# Altium footprint library 驱动1.PcbLib: 11 footprints
Each footprint in its own frame and in the unit in brackets; x right, y up, seen from the top. Pads: shape width x height; smd on the part's side, far side on the other; paste and mask are expansions set on the pad; w line width, h text height; cw(c..) or ccw(c..) is an arc to the next point about the centre after c.
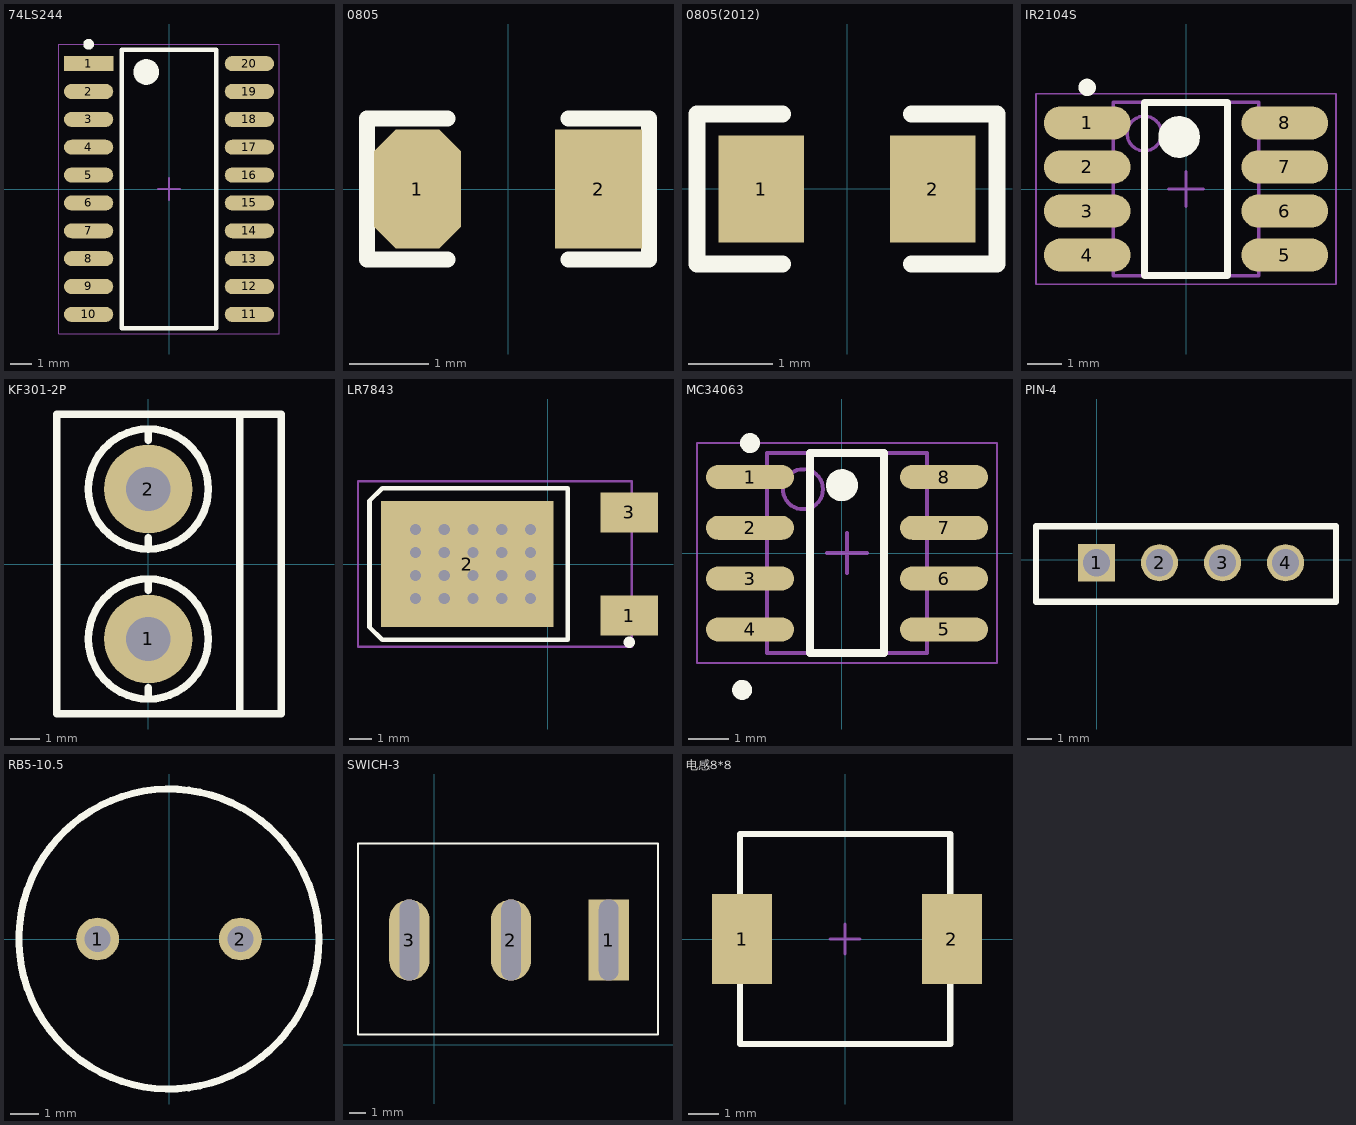
[diagram p0: the footprints below, top view; thin cyan lines are the x and y axes]

## 74LS244 [mm]
height 2.65
pads (20):
  rect 2.3x0.7 smd: 1(-3.75,5.85)
  oval 2.3x0.7 smd: 2(-3.75,4.55) 3(-3.75,3.25) 4(-3.75,1.95) 5(-3.75,0.65) 6(-3.75,-0.65) 7(-3.75,-1.95) 8(-3.75,-3.25) 9(-3.75,-4.55) 10(-3.75,-5.85) 11(3.75,-5.85) 12(3.75,-4.55) 13(3.75,-3.25) 14(3.75,-1.95) 15(3.75,-0.65) 16(3.75,0.65) 17(3.75,1.95) 18(3.75,3.25) 19(3.75,4.55) 20(3.75,5.85)
Top Overlay:
  circle w0.6: c-1.062,5.461 r0.3
  circle w0.25: c-3.75,6.75 r0.125
  lines w0.2: -2.2,-6.5 2.2,-6.5 2.2,6.5 -2.2,6.5 -2.2,-6.5
Mechanical 15:
  lines w0.05: -5.15,-6.75 5.15,-6.75 5.15,6.75 -5.15,6.75 -5.15,-6.75
  lines w0.1: -0.5,0 0.5,0 ; 0,-0.5 0,0.5

## 0805 [mm]
pads (2):
  oct 1.1x1.5 smd: 1(-1.143,0)
  rect 1.1x1.5 smd: 2(1.143,0)
Top Overlay:
  lines w0.2: -1.778,-0.889 -0.762,-0.889 ; -1.778,0.889 -0.762,0.889 ; 0.762,-0.889 1.778,-0.889 ; 0.762,0.889 1.778,0.889
  lines w0.203: -1.778,-0.889 -1.778,0.889 ; 1.778,-0.889 1.778,0.889

## 0805(2012) [mil]
pads (2):
  rect 40x50 smd: 1(-40,0) 2(40,0)
Top Overlay:
  lines w7.87: -70,-35 -30,-35 ; -70,35 -30,35 ; 30,-35 70,-35 ; 30,35 70,35
  lines w8: -70,-35 -70,35 ; 70,-35 70,35

## IR2104S [mm] "SOIC, 8-Leads, Body 4.90x4.16mm, Pitch 1.27mm, IPC Medium Density"
height 1.75
pads (8):
  oval 2.5x0.95 smd: 1(-2.85,1.905) 2(-2.85,0.635) 3(-2.85,-0.635) 4(-2.85,-1.905) 5(2.85,-1.905) 6(2.85,-0.635) 7(2.85,0.635) 8(2.85,1.905)
Top Overlay:
  circle w0.25: c-2.85,2.93 r0.125
  circle w0.6: c-0.2,1.5 r0.3
  lines w0.2: -1.2,-2.5 -1.2,2.5 1.2,2.5 1.2,-2.5 -1.2,-2.5
Mechanical 13:
  circle w0.1: c-1.2,1.6 r0.5
  lines w0.1: -2.1,-2.5 -2.1,2.5 2.1,2.5 2.1,-2.5 -2.1,-2.5
Mechanical 15:
  lines w0.05: -4.325,-2.75 -4.325,2.75 4.325,2.75 4.325,-2.75 -4.325,-2.75
  lines w0.1: -0.5,0 0.5,0 ; 0,-0.5 0,0.5
3D body: height 1.75, standoff 0.22, extent -2.1,-2.5 2.1,2.5

## KF301-2P [mm]
pads (2):
  round 3 hole 1.5: 1(0,-2.54) 2(0,2.54)
Top Overlay:
  circle w0.254: c0,2.54 r2.032
  circle w0.254: c0,-2.54 r2.032
  lines w0.254: 0,-4.572 0,-4.191 ; 0,-0.889 0,-0.508 ; 0,0.508 0,0.889 ; 0,4.191 0,4.572 ; 3.1,-5.08 3.1,5.08 ; -3.1,-5.08 -3.1,5.08 4.5,5.08 4.5,-5.08 -3.1,-5.08

## LR7843 [mm]
pads (3):
  rect 2.54x1.778 smd: 1(3.6,-2.28) 3(3.6,2.28)
  rect 7.6x5.55 smd: 2(-3.556,0)
via -0.762,-1.524 diameter 0.8 hole 0.5
via -0.762,-0.508 diameter 0.8 hole 0.5
via -0.762,1.524 diameter 0.8 hole 0.5
via -0.762,0.508 diameter 0.8 hole 0.5
via -5.842,-1.524 diameter 0.8 hole 0.5
via -3.302,-1.524 diameter 0.8 hole 0.5
via -2.032,-0.508 diameter 0.8 hole 0.5
via -2.032,-1.524 diameter 0.8 hole 0.5
via -2.032,0.508 diameter 0.8 hole 0.5
via -2.032,1.524 diameter 0.8 hole 0.5
via -3.302,-0.508 diameter 0.8 hole 0.5
via -3.302,0.508 diameter 0.8 hole 0.5
via -3.302,1.524 diameter 0.8 hole 0.5
via -4.572,-1.524 diameter 0.8 hole 0.5
via -4.572,-0.508 diameter 0.8 hole 0.5
via -4.572,0.508 diameter 0.8 hole 0.5
via -4.572,1.524 diameter 0.8 hole 0.5
via -5.842,-0.508 diameter 0.8 hole 0.5
via -5.842,0.508 diameter 0.8 hole 0.5
via -5.842,1.524 diameter 0.8 hole 0.5
Top Overlay:
  circle w0.25: c3.6,-3.455 r0.125
  lines w0.2: -7.874,-2.794 -7.874,2.794 -7.318,3.35 0.889,3.35 0.889,-3.35 -7.318,-3.35 -7.874,-2.794
Mechanical 15:
  lines w0.1: -1.85,0 -0.85,0 ; -1.35,-0.5 -1.35,0.5 ; -8.382,-3.65 -8.382,3.65 3.705,3.65 3.705,-3.65 -8.382,-3.65

## MC34063 [mm]
pads (8):
  oval 2.2x0.6 smd: 1(-2.298,1.905) 2(-2.298,0.635) 3(-2.298,-0.635) 4(-2.298,-1.905) 5(2.552,-1.905) 6(2.552,-0.635) 7(2.552,0.635) 8(2.552,1.905)
Top Overlay:
  circle w0.4: c0.002,1.7 r0.2
  circle w0.25: c-2.298,2.755 r0.125
  circle w0.25: c-2.494,-3.418 r0.125
  lines w0.2: -0.798,-2.5 1.052,-2.5 1.052,2.5 -0.798,2.5 -0.798,-2.5
Mechanical 13:
  circle w0.1: c-0.973,1.6 r0.5
  lines w0.1: -1.873,-2.5 2.127,-2.5 2.127,2.5 -1.873,2.5 -1.873,-2.5
Mechanical 15:
  lines w0.05: -3.623,-2.75 3.877,-2.75 3.877,2.75 -3.623,2.75 -3.623,-2.75
  lines w0.1: -0.373,0 0.627,0 ; 0.127,-0.5 0.127,0.5
3D body: height 1.5, standoff 0.2, extent -1.873,-2.5 2.127,2.5

## PIN-4 [mm]
pads (4):
  rect 1.5x1.5 hole 1.1: 1(0,-0.127)
  round 1.5 hole 1.1: 2(2.54,-0.127) 3(5.08,-0.127) 4(7.62,-0.127)
Top Overlay:
  lines w0.254: -2.438,-1.702 9.652,-1.702 9.652,1.346 -2.438,1.346 -2.438,-1.702

## RB5-10.5 [mm] "Capacitor (Radial); 2 Leads"
pads (2):
  round 1.5 hole 0.9: 1(-2.5,0) 2(2.5,0)
Top Overlay:
  circle w0.25: c0,0 r5.25
Mechanical 1:
  circle w0.02: c0,0 r5.25

## SWICH-3 [mm]
pads (3):
  rect 2.5x5 hole 1.2 slot 5 at 90 deg: 1(10.795,6.477)
  oval 2.5x5 hole 1.2 slot 5 at 90 deg: 2(4.756,6.477) 3(-1.524,6.477)
Top Overlay:
  lines w0.127: -4.699,0.635 -4.699,12.446 13.843,12.446 13.843,0.635 -4.699,0.635

## 电感8*8 [mm]
pads (2):
  rect 2x3 smd: 1(-3.429,0) 2(3.556,0)
Top Overlay:
  lines w0.2: -3.5,-1.5 -3.5,-3.5 3.5,-3.5 3.5,-1.5 ; -3.5,1.5 -3.5,3.5 3.5,3.5 3.5,1.5
Mechanical 15:
  lines w0.1: -0.5,0 0.5,0 ; 0,-0.5 0,0.5